# Altium schematic symbol library MBoard.SchLib: 34 symbols
Pins are listed as number, name and electrical type; pins without a type are passive.

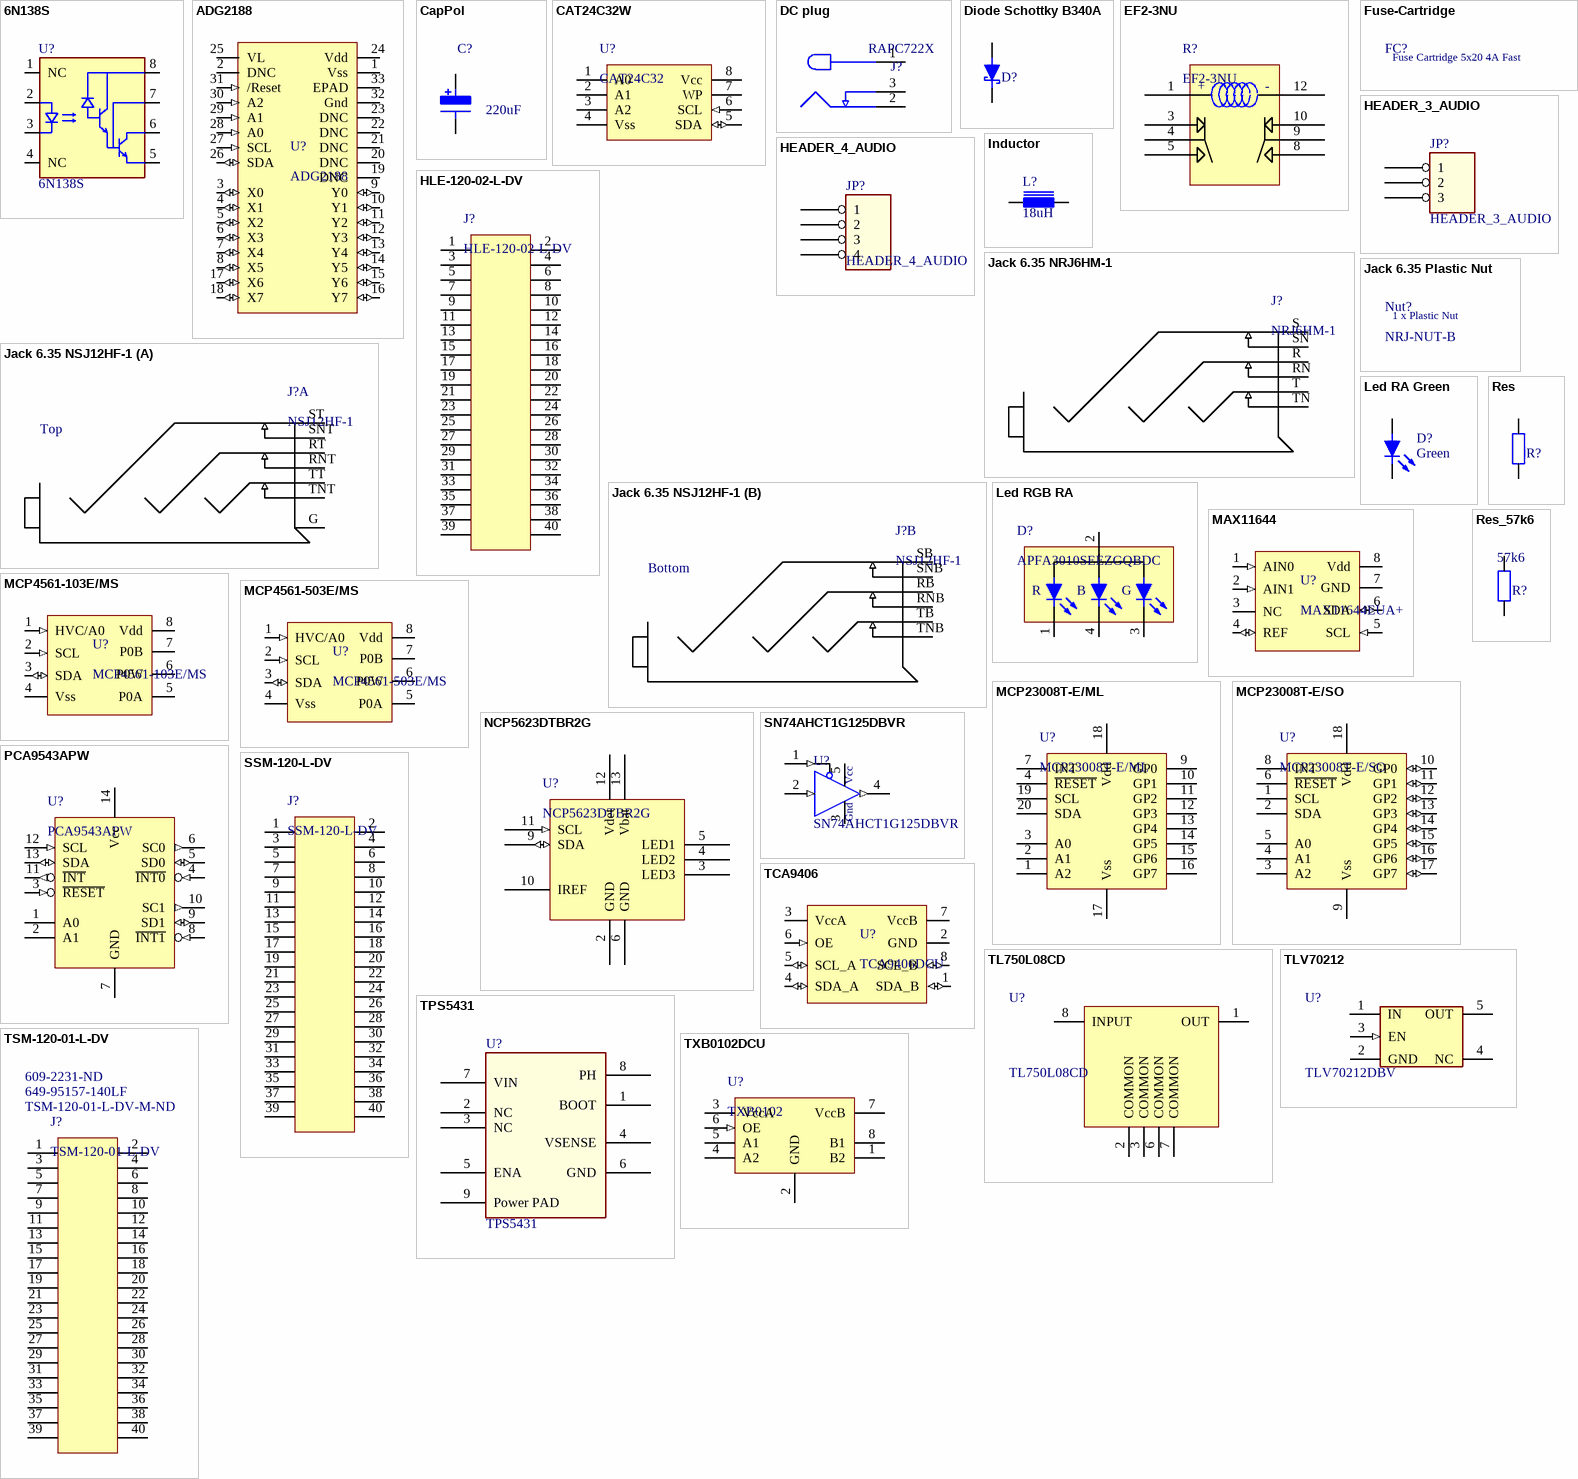
[diagram p0: symbols 6N138S to TXB0102DCU]

## 6N138S
designator U?
High Speed Optocoupler; Manufacturer: Vishay; Pitch: 2,54mm; Body: 10,16x7,62mm; Component Type: IC; Manufacturer P/N: 6N138S; Category: Ics Opto; Package Type: SOIC-8; Value: 6N138S; RoHS Compliant: True
footprint SDIP-8 (SMD DIP-8, pitch 2.54, body 9.8mmx6.35mm)
pins: 1 NC, 2 IN+, 3 IN-, 4 NC, 5 GND, 6 Vo, 7 Vb, 8 ALIM

## ADG2188
designator U?
Switch 8x8
footprint VFQFN-32_(32-Lead LFCSP_VQ) (IC Package VQFQFN-32 (32-Lead LFCSP_VQ))
pins: 1 Vss (power), 2 DNC, 3 X0 (io), 4 X1 (io), 5 X2 (io), 6 X3 (io), 7 X4 (io), 8 X5 (io), 9 Y0 (io), 10 Y1 (io), 11 Y2 (io), 12 Y3 (io), 13 Y4 (io), 14 Y5 (io), 15 Y6 (io), 16 Y7 (io), 17 X6 (io), 18 X7 (io), 19 DNC, 20 DNC, 21 DNC, 22 DNC, 23 DNC, 24 Vdd (power), 25 VL (power), 26 SDA (io), 27 SCL (in), 28 A0 (in), 29 A1 (in), 30 A2 (in), 31 /Reset (in), 32 Gnd (power), 33 EPAD (power)

## CapPol
designator C?, comment 220uF
Tantalum Polymer 40mOhm ESR; Manufacturer: Panasonic; Manufacturer P/N: 10TPB220ML; Voltage: 10V; Tolerance: ±20%; Component Type: Capacitor, polarized; RoHS Compliant: True; Supplier 1: Digi-Key; Supplier Part Number 1: P16448CT-ND; Value: 220uF
footprint SM/CT_7343_12_D
pins: 1, 2

## CAT24C32W
designator U?, comment CAT24C32
32-Kb I2C CMOS Serial  EEPROM; Supplier 1: Farnell; Supplier 2: Mouser; Supplier 3: Newark; Supplier 4: Digi-Key; Supplier 5: Digi-Key; Supplier 6: Digi-Key; Supplier 7: Newark; Supplier 8: Farnell; Supplier 9: Arrow; Supplier 10: Mouser; Supplier 11: Arrow; Supplier Part Number 1: 1718129; Supplier Part Number 2: 698-CAT24C32WI-GT3; Supplier Part Number 3: 08R5414; Supplier Part Number 4: CAT24C32WI-GT3CT-ND; Supplier Part Number 5: CAT24C32WI-GOS-ND; Supplier Part Number 6: CAT24C32WI-GT3DKR-ND; Supplier Part Number 7: 06R0560; Supplier Part Number 8: 1631139; Supplier Part Number 9: VnlsYlhtkEtjJb7ddmB954M0cIWzK2n6cXeSPF3m92I; Supplier Part Number 10: 698-CAT24C32WI-G; Supplier Part Number 11: VnlsYlhtkEtjJb7ddmB95zFhSL4MLJyM6Ic6OekJsHY
footprint SOIC-8 - N (SOIC-8 / Body 5x4x1.75mm / Pitch 1.27mm  / 8 Pins)
pins: 1 A0, 2 A1, 3 A2, 4 Vss (power), 5 SDA (io), 6 SCL (in), 7 WP, 8 Vcc (power)

## DC plug
designator J?, comment RAPC722X
DC Power Connectors PCB 2.1MM; Manufacturer: SwitchCraft; Manufacturer P/N: RAPC722X; RoHS Compliant: True; Value: RAPC722X; Supplier 1: Digi-Key; Supplier 2: Allied; Supplier 3: Arrow; Supplier 4: Mouser; Supplier 5: Farnell; Supplier 6: Newark; Supplier Part Number 1: SC1313-ND; Supplier Part Number 2: 70214249; Supplier Part Number 3: blYXMuP4ttz343UuLrm15RbyFWZhgxSi-pvmLfeRSPM; Supplier Part Number 4: 502-RAPC722X; Supplier Part Number 5: 1654842; Supplier Part Number 6: 65K7786
footprint RAPC722X
pins: 1, 2, 3

## Diode Schottky B340A
designator D?, comment B340A  (value not drawn)
DIODE SCHOTTKY 30V 3A SMA; Supplier 1: Newark; Supplier 2: Mouser; Supplier 3: Allied; Supplier 4: Arrow; Supplier 5: Farnell; Supplier 6: Digi-Key; Supplier 7: Digi-Key; Supplier Part Number 1: 12T1465; Supplier Part Number 2: 621-B340A-F; Supplier Part Number 3: 70437566; Supplier Part Number 5: 1843668; Supplier Part Number 6: B340A-FDICT-ND; Supplier Part Number 7: B340A-FDIDKR-ND
footprint SM/D_DO214-AC (SMA) (DO-214-AC/SMA; 2 C-Bend Leads; Body 5 x 2.7 mm, inc. leads (LxW))
pins: 1 A "Anode", 2 C "Cathode"

## EF2-3NU
designator R?
Miniature Signal Relay
footprint EF2-NU
pins: 1, 3, 4, 5, 8, 9, 10, 12
text: +; -

## Fuse-Cartridge
designator FC?, comment Fuse Cartridge 5x20 4A Fast  (value not drawn)  (mechanical)
Cartridge Fuses FSF 5X20 250V 4A; Manufacturer: Schurter; Manufacturer P/N: 0034.1522; Supplier 1: Mouser; Supplier 2: Allied; Supplier 3: Digi-Key; Supplier Part Number 1: 693-0034.1522; Supplier Part Number 2: 70159906; Supplier Part Number 3: 486-1239-ND

## HEADER_3_AUDIO
designator JP?  (no BOM)
Manufacturer: REDS; RoHS Compliant1: True
footprint HEADER3_WIRE
pins: 1, 2, 3

## HEADER_4_AUDIO
designator JP?  (no BOM)
Manufacturer: REDS; RoHS Compliant1: True
footprint HEADER4_WIRE
pins: 1, 2, 3, 4

## HLE-120-02-L-DV
designator J?
Mating (female) connector for the RPi 3; Supplier 1: Newark; Supplier 2: Farnell; Supplier 3: Farnell; Supplier Part Number 1: 76T8648; Supplier Part Number 2: 1806800; Supplier Part Number 3: 2417766
footprint HLE-120-02-L-DV
pins: 1, 2, 3, 4, 5, 6, 7, 8, 9, 10, 11, 12, 13, 14, 15, 16, 17, 18, 19, 20, 21, 22, 23, 24, 25, 26, 27, 28, 29, 30, 31, 32, 33, 34, 35, 36, 37, 38, 39, 40

## Inductor
designator L?, comment 18uH
INDUCTOR POWER 18UH 4.2A SMD; Manufacturer: Bourns; Manufacturer P/N: SRR1260-180M; Supplier 1: Arrow; Supplier 2: Farnell; Supplier 3: Digi-Key; Supplier 4: Newark; Supplier 5: Mouser; Supplier Part Number 1: TL_AR8erWPXUZP3N6toZ0N0v_Pdy6Q30xQll4OGV_E0; Supplier Part Number 2: 1852891; Supplier Part Number 3: SRR1260-180MDKR-ND; Supplier Part Number 4: 02J3131; Supplier Part Number 5: 652-SRR1260-180M
footprint BOURNS_1260
pins: 1, 2
2 alternate drawings of the same symbol

## Jack 6.35 NRJ6HM-1
designator J?, comment NRJ6HM-1
Neutronik Jack 6.35 connector; Supplier 1: Mouser; Supplier 2: Allied; Supplier 3: Allied; Supplier 4: Mouser; Supplier 5: Farnell; Supplier 6: Newark; Supplier Part Number 1: 568-NRJ6HM1; Supplier Part Number 2: 70347925; Supplier Part Number 3: 70549342; Supplier Part Number 4: 568-NRJ6HM-1-AU; Supplier Part Number 5: 1202034; Supplier Part Number 6: 97K6658
footprint NRJ6HM-1 (Neutronik Jack 6.35mm)
pins: R, RN, S, SN, T, TN

## Jack 6.35 NSJ12HF-1
designator J?, comment NSJ12HF-1
Neutronik 2xJack 6.35 connector; Manufacturer: Neutrik; Supplier 1: Allied; Supplier 2: Newark; Supplier 3: Mouser; Supplier Part Number 1: 70549361; Supplier Part Number 2: 10J0817; Supplier Part Number 3: 568-NSJ12HF-1; Manufacturer P/N: NSJ12HF-1
footprint NSJ12HF-1 (Neutronik Stacked Jack 6.35mm)
part A pins: G, RNT, RT, SNT, ST, TNT, TT
part B pins: RB, RNB, SB, SNB, TB, TNB
part A text: Top
part B text: Bottom

## Jack 6.35 Plastic Nut
designator Nut?, comment NRJ-NUT-B  (mechanical)
Plastic Nut to fasten 6.35 jack; Manufacturer: Neutrik; Manufacturer P/N: NRJ-NUT-B; Supplier 1: Mouser; Supplier 2: Allied; Supplier Part Number 1: 550-1005; Supplier Part Number 2: 70088339
text: 1 x Plastic Nut

## Led RA Green
designator D?, comment value Green  (hidden comment: Led)
SMT LED, 1001F Series, Single Color Right Angle Type (3.0 X 2.0 mm); Manufacturer: Kingbright; Manufacturer P/N: APA3010ZGC-GX; Voltage: 3.3 V; Component Type: Led; RoHS Compliant: True; Supplier 1: Mouser; Supplier 2: Digi-Key; Supplier Part Number 1: 604-APA3010ZGC-GX; Supplier Part Number 2: 754-1575-1-ND
footprint S_1101F_GREEN
pins: 1 C, 2 A

## Led RGB RA
designator D?, comment APFA3010SEEZGQBDC
3.0x1.0mm RIGHT ANGLE SMD CHIP LED  LAMP; Supplier 1: Mouser; Supplier 2: Digi-Key; Supplier Part Number 1: 604-APFA3010SEEZGQBD; Supplier Part Number 2: 754-1649-6-ND
footprint APFA3010 (LED RGB R/A)
pins: 1 C, 2 A, 3 C, 4 C
text: R; B; G

## MAX11644
designator U?, comment MAX11644EUA+
ADC 12Bit I2C; Supplier 1: Digi-Key; Supplier Part Number 1: MAX11644EUA+-ND
footprint uMAX-8
pins: 1 AIN0 (in), 2 AIN1 (in), 3 NC, 4 REF (io), 5 SCL (in), 6 SDA (io), 7 GND (power), 8 Vdd (power)

## MCP4561-103E/MS
designator U?
I2C Digital pot 10K; Supplier 1: Digi-Key; Supplier 2: Arrow; Supplier Part Number 1: MCP4561-103E/MS-ND; Supplier Part Number 2: lpxp5-gz8NvOdK2CvBd4ZmtK0HMy7y-wCK48FmQm7X4
footprint MSOP-8 (Package MSOP-8  3.1x3.1 0.65 pitch (8-uMAX))
pins: 1 HVC/A0 (in), 2 SCL (in), 3 SDA (io), 4 Vss (power), 5 P0A, 6 P0W, 7 P0B, 8 Vdd (power)

## MCP4561-503E/MS
designator U?
I2C Digital pot 50K; Supplier 1: Digi-Key; Supplier 2: Arrow; Supplier Part Number 1: MCP4561-503E/MS-ND; Supplier Part Number 2: lpxp5-gz8NvOdK2CvBd4ZtM6b7sy6fNNyje9_7_wP3c
footprint MSOP-8 (Package MSOP-8  3.1x3.1 0.65 pitch (8-uMAX))
pins: 1 HVC/A0 (in), 2 SCL (in), 3 SDA (io), 4 Vss (power), 5 P0A, 6 P0W, 7 P0B, 8 Vdd (power)

## MCP23008T-E/ML
designator U?
8-Bit I/O Expander with Serial Interface (QFN); Supplier 1: Mouser; Supplier 2: Arrow; Supplier 3: Allied; Supplier 4: Digi-Key; Supplier 5: Digi-Key; Supplier 6: Mouser; Supplier Part Number 1: 579-MCP23008T-E/ML; Supplier Part Number 2: z9HrPUYC-Z_kvHyipgUSB4Ch4KS8pUVMVtyhV3qf-m4; Supplier Part Number 3: 70454140; Supplier Part Number 4: MCP23008-E/ML-ND; Supplier Part Number 5: MCP23008T-E/ML-ND; Supplier Part Number 6: 579-MCP23008-E/ML
pins: 1 A2, 2 A1, 3 A0, 4 ~{RESET}, 7 INT, 9 GP0, 10 GP1, 11 GP2, 12 GP3, 13 GP4, 14 GP5, 15 GP6, 16 GP7, 17 Vss, 18 Vdd, 19 SCL, 20 SDA

## MCP23008T-E/SO
designator U?
8-Bit I/O Expander with Serial Interface (SOIC); Supplier 1: Mouser; Supplier 2: Farnell; Supplier 3: Digi-Key; Supplier 4: Arrow; Supplier Part Number 1: 579-MCP23008T-E/SO; Supplier Part Number 2: 1332086; Supplier Part Number 3: MCP23008T-E/SODKR-ND; Supplier Part Number 4: z9HrPUYC-Z_kvHyipgUSB4v0Qz4-3ABI9jppHtpV0FM
footprint SOIC-18 - W (SOIC-18 - Body 11.5x7.62mm - pitch 1.27mm  - 18 pins)
pins: 1 SCL, 2 SDA, 3 A2, 4 A1, 5 A0, 6 ~{RESET}, 8 INT, 9 Vss (power), 10 GP0 (io), 11 GP1 (io), 12 GP2 (io), 13 GP3 (io), 14 GP4 (io), 15 GP5 (io), 16 GP6 (io), 17 GP7 (io), 18 Vdd (power)

## NCP5623DTBR2G
designator U?
Triple Output I2C Controlled RGB LED Driver; Supplier 1: Mouser; Supplier 2: Arrow; Supplier 3: Digi-Key; Supplier Part Number 1: 863-NCP5623DTBR2G; Supplier Part Number 2: 9JGsNSaWsajKjxt30OCY0Xm9Z4kl474dJyr_l9lYFAQ; Supplier Part Number 3: NCP5623DTBR2GOSCT-ND
footprint TSSOP-14 (Thin-shrink small Outline Package (TSSOP), 14-Leads, Body 5.1x4.5mm (max), Pitch 0.65mm, Recommended Pattern)
pins: 1 IC hidden, 2 GND (power), 3 LED3, 4 LED2, 5 LED1, 6 GND (power), 7 NC hidden, 8 NC hidden, 9 SDA (io), 10 IREF, 11 SCL (in), 12 Vdet (power), 13 Vbat (power), 14 IC hidden

## PCA9543APW
designator U?
2-Channel I2C Bus Switch With Interrupt Logic and Reset; Supplier 1: Arrow; Supplier 2: Digi-Key; Supplier Part Number 1: CXrcX0Ksgu2EXoGfPTOdms8Pzusfh2ExCB2AT9PF3AQ; Supplier Part Number 2: 296-22770-1-ND
footprint TSSOP-14 (Thin-shrink small Outline Package (TSSOP), 14-Leads, Body 5.1x4.5mm (max), Pitch 0.65mm, Recommended Pattern)
pins: 1 A0, 2 A1, 3 ~{RESET} (in), 4 ~{INT0} (in), 5 SD0 (io), 6 SC0 (out), 7 GND (power), 8 ~{INT1} (in), 9 SD1 (io), 10 SC1 (out), 11 ~{INT} (out), 12 SCL (in), 13 SDA (io), 14 Vcc (power)

## Res
designator R?, comment 3.24K  (value not drawn)
Résistance 0603 100mW 1% 3.24K; Manufacturer: Panasonic; Manufacturer P/N: ERJ-3EKF3241V; Voltage: 75V; Value: 3.24K; Component Type: Résistance; Power: 100mW; Tolerance: 1%; RoHS Compliant: True; Supplier 1: Mouser; Supplier 2: Allied; Supplier 3: Digi-Key; Supplier 4: Arrow; Supplier 5: Newark; Supplier Part Number 1: 667-ERJ-3EKF3241V; Supplier Part Number 2: 70265773; Supplier Part Number 3: P3.24KHCT-ND; Supplier Part Number 5: 65T8426
footprint SM/R_0603
pins: 1, 2

## Res_57k6
designator R?, comment 57k6
Résistance 0603 100mW 1% 57k6; Manufacturer: Panasonic; Manufacturer P/N: ERJ-3EKF5762V; Voltage: 75V; Value: 57k6; Component Type: Résistance; Power: 100mW; Tolerance: 1%; RoHS Compliant: True; Supplier 1: Allied; Supplier 2: Mouser; Supplier 3: Digi-Key; Supplier Part Number 1: 70265864; Supplier Part Number 2: 667-ERJ-3EKF5762V; Supplier Part Number 3: P57.6KHDKR-ND
footprint SM/R_0603
pins: 1, 2

## SN74AHCT1G125DBVR
designator U?
Buffers & Line Drivers Tri-State Single Bus; Manufacturer: Texas Instruments; Pitch: 0.65mm; Body: 3.15x2.9x1.3mm; Manufacturer P/N: SN74AHCT1G125DBVR; Category: ICs logiques; Package Type: SOT23-5; Value: SN74AHCT1G125; RoHS Compliant: True; Supplier 1: Digi-Key; Supplier 2: Arrow; Supplier Part Number 1: 296-4708-1-ND; Supplier Part Number 2: VJQlf-JApPy44XOFdhpFsLTwoOIB6Mwfbn24Nxqhtw8
footprint SOT23-5
pins: 1 ~{OE} (in), 2 A (in), 3 GND (power), 4 Y (out), 5 VCC (power)
text: Vcc; Gnd

## SSM-120-L-DV
designator J?
Mating (female) connector for the RPi 3
footprint SSM-120
pins: 1, 2, 3, 4, 5, 6, 7, 8, 9, 10, 11, 12, 13, 14, 15, 16, 17, 18, 19, 20, 21, 22, 23, 24, 25, 26, 27, 28, 29, 30, 31, 32, 33, 34, 35, 36, 37, 38, 39, 40

## TCA9406
designator U?, comment TCA9406DCU
I2C Voltage level translator; Supplier 1: Arrow; Supplier 2: Digi-Key; Supplier Part Number 1: PK32Fc7LI8q2iMXYHZWqHxYKLTLCH2B1ORNgaiWt9EM; Supplier Part Number 2: 296-28109-1-ND
footprint VSSOP-8 (Very Shrink Small Outline Package)
pins: 1 SDA_B (io), 2 GND (power), 3 VccA (power), 4 SDA_A (io), 5 SCL_A (io), 6 OE (in), 7 VccB (power), 8 SCL_B (io)

## TL750L08CD
designator U?
Régulateur LDO +8.0V, 150mA; Manufacturer: Texas Instruments; Pitch: 1.27mm; Component Type: IC; Manufacturer P/N: TL750L08CD; Category: ICs analogiques linéaires; Package Type: SOIC; Value: TL750L08CD; RoHS Compliant: True; Supplier 1: Arrow; Supplier 2: Digi-Key; Supplier 3: Mouser; Supplier Part Number 1: ptwpRgI95fu-x3X5RzoczI1OkBIGrgz1E6z2s0uSeOY; Supplier Part Number 2: 296-8004-5-ND; Supplier Part Number 3: 595-TL750L08CDR
footprint SOIC-8 - N (SOIC-8 / Body 5x4x1.75mm / Pitch 1.27mm  / 8 Pins)
pins: 1 OUT, 2 COMMON, 3 COMMON, 4 NC hidden, 5 NC hidden, 6 COMMON, 7 COMMON, 8 INPUT

## TLV70212
designator U?, comment TLV70212DBV
Régulateur LDO +1.2V, 300mA; Manufacturer: Texas Instruments; Pitch: 0.65mm; Component Type: IC; Manufacturer P/N: TLV70212DBV; Category: ICs analogiques linéaires; Package Type: SOT23-5; Value: TLV70212DBV; RoHS Compliant: True; Supplier 1: Mouser; Supplier 2: Digi-Key; Supplier 3: Farnell; Supplier 4: Arrow; Supplier Part Number 1: 595-TLV70212DBVR; Supplier Part Number 2: 296-29583-1-ND; Supplier Part Number 3: 2455686; Supplier Part Number 4: m4UZFwQuYpTafyOZsC6RDYHVEIEFGGaLKVC4VyXQD_U
footprint SOT23-5
pins: 1 IN (power), 2 GND (power), 3 EN (in), 4 NC, 5 OUT (power)

## TPS5431
designator U?
IC REG BUCK ADJ 3A 8SO; Manufacturer: Texas Instruments; Manufacturer P/N: TPS5431DDAR; ID: 2042; Pitch: 1.27mm; Body: 5x4x1.75mm; Component Type: IC; Category: ICs analogiques linéaires; Package Type: SOIC-8; Value: TPS5431; RoHS Compliant: True; Supplier 1: Arrow; Supplier 2: Mouser; Supplier 3: Digi-Key; Supplier Part Number 1: d0f3wp0FcCwsu7PyZ1UsheiGmPJnpAWalhsyOBe_tJk; Supplier Part Number 2: 595-TPS5431DDAR; Supplier Part Number 3: 296-41750-1-ND
footprint SOIC-8 - N - Power Pad (SOIC-8 / Body 5x4x1.75mm / Pitch 1.27mm  / 8 Pins)
pins: 1 BOOT, 2 NC, 3 NC, 4 VSENSE, 5 ENA, 6 GND, 7 VIN, 8 PH, 9 Power PAD

## TSM-120-01-L-DV
designator J?  Supplier Part Number 1: TSM-120-01-L-DV-M-ND  Supplier Part Number 2: 649-95157-140LF  Supplier Part Number 3: 609-2231-ND
Mating (male) connector for the RPi 3; Supplier 1: Digi-Key; Supplier 2: Mouser; Supplier 3: Digi-Key; Supplier 4: Farnell; Supplier Part Number 4: 1915231
footprint TSM-120-04-L-DV
pins: 1, 2, 3, 4, 5, 6, 7, 8, 9, 10, 11, 12, 13, 14, 15, 16, 17, 18, 19, 20, 21, 22, 23, 24, 25, 26, 27, 28, 29, 30, 31, 32, 33, 34, 35, 36, 37, 38, 39, 40

## TXB0102DCU
designator U?, comment TXB0102
Supplier 1: Newark; Supplier 2: Arrow; Supplier 3: Farnell; Supplier 4: Digi-Key; Supplier 5: Mouser; Supplier Part Number 1: 46M1367; Supplier Part Number 2: H1sfZLCJ71Ugeici7dGvzhM9ihuF7G8W3yd-TgFgx_o; Supplier Part Number 3: 2295723; Supplier Part Number 4: 296-22862-1-ND; Supplier Part Number 5: 595-TXB0102DCUR
pins: 1 B2, 2 GND (power), 3 VccA (power), 4 A2, 5 A1, 6 OE (in), 7 VccB (power), 8 B1